# Altium schematic symbol library 1206 RES.Schlib: 1 symbol
Pins are listed as number, name and electrical type; pins without a type are passive.

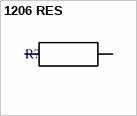
[diagram p0: symbol 1206 RES]

## 1206 RES
designator R?
Resistor
pins: 1, 2